# EAGLE library part T816108A1S102CEU (library T816108A1S102CEU)
Amphenol T816 Series, 2.54mm Pitch 8 Way 2 Row Straight PCB Header, Solder Termination, 3A Source: Datasheet <https://docs.rs-online.com/fce6/0900766b81359cbb.pdf>
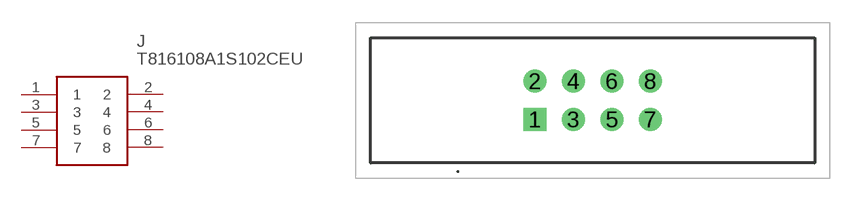
[diagram p0: symbol with the pads of T816108A1S102CEU; footprint T816108A1S102CEU]

Designator prefix J

## T816108A1S102CEU (DESCRIPTION: Amphenol T816 Series, 2.54mm Pitch 8 Way 2 Row Straight PCB Header, Solder Termination, 3A; HEIGHT: 27.2mm; MANUFACTURER_NAME: Amphenol; MANUFACTURER_PART_NUMBER: T816108A1S102CEU)  [T816108A1S102CEU]
1  1
2  2
3  3
4  4
5  5
6  6
7  7
8  8

## Footprint T816108A1S102CEU (pad centres in mm)
T816108A1S102CEU-1
drill 1.02 pad 1.53 square: 1 5.1,0
drill 1.02 pad 1.53: 2 5.1,2.54; 3 7.64,0; 4 7.64,2.54; 5 10.18,0; 6 10.18,2.54; 7 12.72,0; 8 12.72,2.54